# EAGLE library part 430452400 (library con-jst)
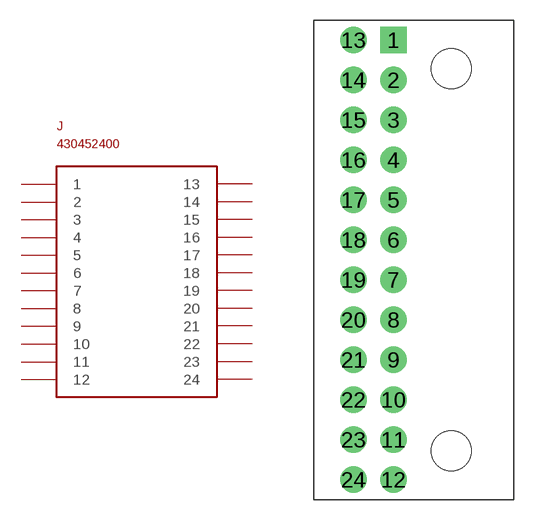
[diagram p24: symbol with the pads of 430452400; footprint 430452400]

Designator prefix J

## 430452400  [430452400]
1  1
2  2
3  3
4  4
5  5
6  6
7  7
8  8
9  9
10  10
11  11
12  12
13  13
14  14
15  15
16  16
17  17
18  18
19  19
20  20
21  21
22  22
23  23
24  24

## Footprint 430452400 (pad centres in mm)
drill 1.1 pad 2 square: 1 0,16.5
drill 1.1 pad 2: 2 0,13.5; 3 0,10.5; 4 0,7.5; 5 0,4.5; 6 0,1.5; 7 0,-1.5; 8 0,-4.5; 9 0,-7.5; 10 0,-10.5; 11 0,-13.5; 12 0,-16.5; 13 -3,16.5; 14 -3,13.5; 15 -3,10.5; 16 -3,7.5; 17 -3,4.5; 18 -3,1.5; 19 -3,-1.5; 20 -3,-4.5; 21 -3,-7.5; 22 -3,-10.5; 23 -3,-13.5; 24 -3,-16.5
hole 3 at 4.32,14.34
hole 3 at 4.32,-14.34